# Altium footprint library Internal_Lib_Thermostat_STM8.PcbLib: 18 footprints (part 2 of 2)
Each footprint in its own frame and in the unit in brackets; x right, y up, seen from the top. Pads: shape width x height; smd on the part's side, far side on the other; paste and mask are expansions set on the pad; w line width, h text height; cw(c..) or ccw(c..) is an arc to the next point about the centre after c.
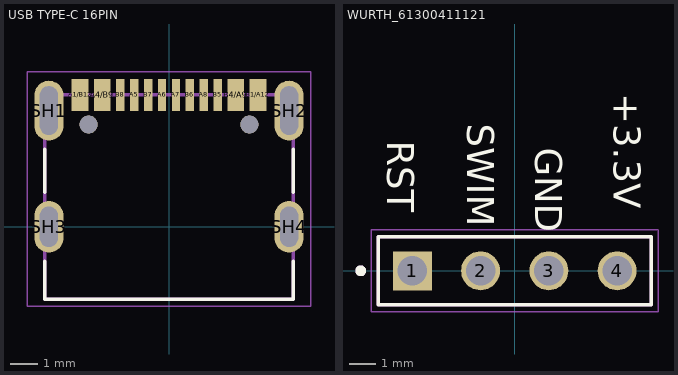
[diagram p1: the footprints below, top view; thin cyan lines are the x and y axes]

## USB TYPE-C 16PIN [mm] "USB Type C Receptacle SMT Single Row 16Pin"
pads (18):
  rect 0.6x1.15 smd: A1/B12(-3.2,4.745) A4/B9(-2.4,4.745) B1/A12(3.2,4.745) B4/A9(2.4,4.745)
  rect 0.3x1.15 smd: A5(-1.25,4.745) A6(-0.25,4.745) A7(0.25,4.745) A8(1.25,4.745) B5(1.75,4.745) B6(0.75,4.745) B7(-0.75,4.745) B8(-1.75,4.745)
  oval 1.05x2.15 hole 0.65 slot 1.75 at 90 deg: SH1(-4.32,4.18) SH2(4.32,4.18)
  oval 1.05x1.85 hole 0.65 slot 1.45 at 90 deg: SH3(-4.32,0) SH4(4.32,0)
  round 0.65 hole 0.65 unplated: ""(-2.89,3.68) ""(2.89,3.68)
Top Overlay:
  lines w0.127: -4.47,-1.245 -4.47,-2.6 4.47,-2.6 4.47,-1.245 ; -4.47,1.245 -4.47,2.785 ; 4.47,1.245 4.47,2.785
Top 3D Body:
  lines w0.127: -4.47,-2.6 4.47,-2.6 4.47,4.75 -4.47,4.75 -4.47,-2.6
Top Courtyard:
  lines w0.05: -5.095,-2.85 -5.095,5.57 5.095,5.57 5.095,-2.85 -5.095,-2.85
3D body "step_temp.STEP": height 3.26, standoff -0.9, extent -4.47,-2.6 4.47,4.998

## WURTH_61300411121 [mm]
pads (4):
  rect 1.45x1.45 / inner round 1.45 / far side rect 1.45x1.45 hole 1.1: 1(-3.81,0)
  round 1.45 hole 1.1: 2(-1.27,0) 3(1.27,0) 4(3.81,0)
Top Overlay:
  circle w0.2: c-5.73,0 r0.1
  lines w0.127: -5.08,-1.27 -5.08,1.27 5.08,1.27 5.08,-1.27 -5.08,-1.27
  text "RST" at -4.751,4.837 h1
  text "GND" at 0.762,4.572 h1
  text "+3.3V" at 3.683,6.604 h1
  text "SWIM" at -1.761,5.464 h1
Top 3D Body:
  circle w0.2: c-5.73,0 r0.1
  lines w0.127: -5.08,-1.27 -5.08,1.27 5.08,1.27 5.08,-1.27 -5.08,-1.27
Top Courtyard:
  lines w0.05: -5.33,-1.52 -5.33,1.52 5.33,1.52 5.33,-1.52 -5.33,-1.52
3D body "step_temp.STEP": height 7.27, standoff -4.27, extent -5.08,-1.27 5.08,1.27